# EAGLE library part L3GD20H (library L3GD20H)
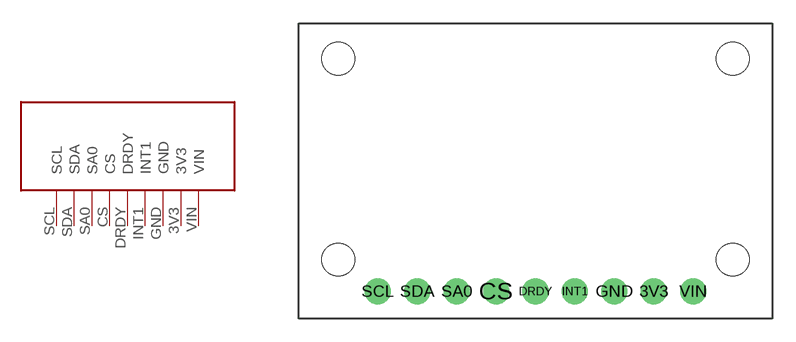
[diagram p0: symbol with the pads of L3GD20H; footprint L3GD20H]

Designator prefix -

## L3GD20H  [L3GD20H]
3V3  3V3
CS  CS
DRDY  DRDY
GND  GND
INT1  INT1
SA0  SA0
SCL  SCL
SDA  SDA
VIN  VIN

## Footprint L3GD20H (pad centres in mm)
drill 1.016 pad 1.676: 3V3 17.78,-2.032; CS 7.62,-2.032; DRDY 10.16,-2.032; GND 15.24,-2.032; INT1 12.7,-2.032; SA0 5.08,-2.032; SCL 0,-2.032; SDA 2.54,-2.032; VIN 20.32,-2.032
hole 2.1 at 22.86,0
hole 2.1 at -2.54,0
hole 2.1 at -2.54,12.954
hole 2.1 at 22.86,12.954